# Altium footprint library UBC Formula Electric.PcbLib: 35 footprints (part 2 of 3)
Each footprint in its own frame and in the unit in brackets; x right, y up, seen from the top. Pads: shape width x height; smd on the part's side, far side on the other; paste and mask are expansions set on the pad; w line width, h text height; cw(c..) or ccw(c..) is an arc to the next point about the centre after c.
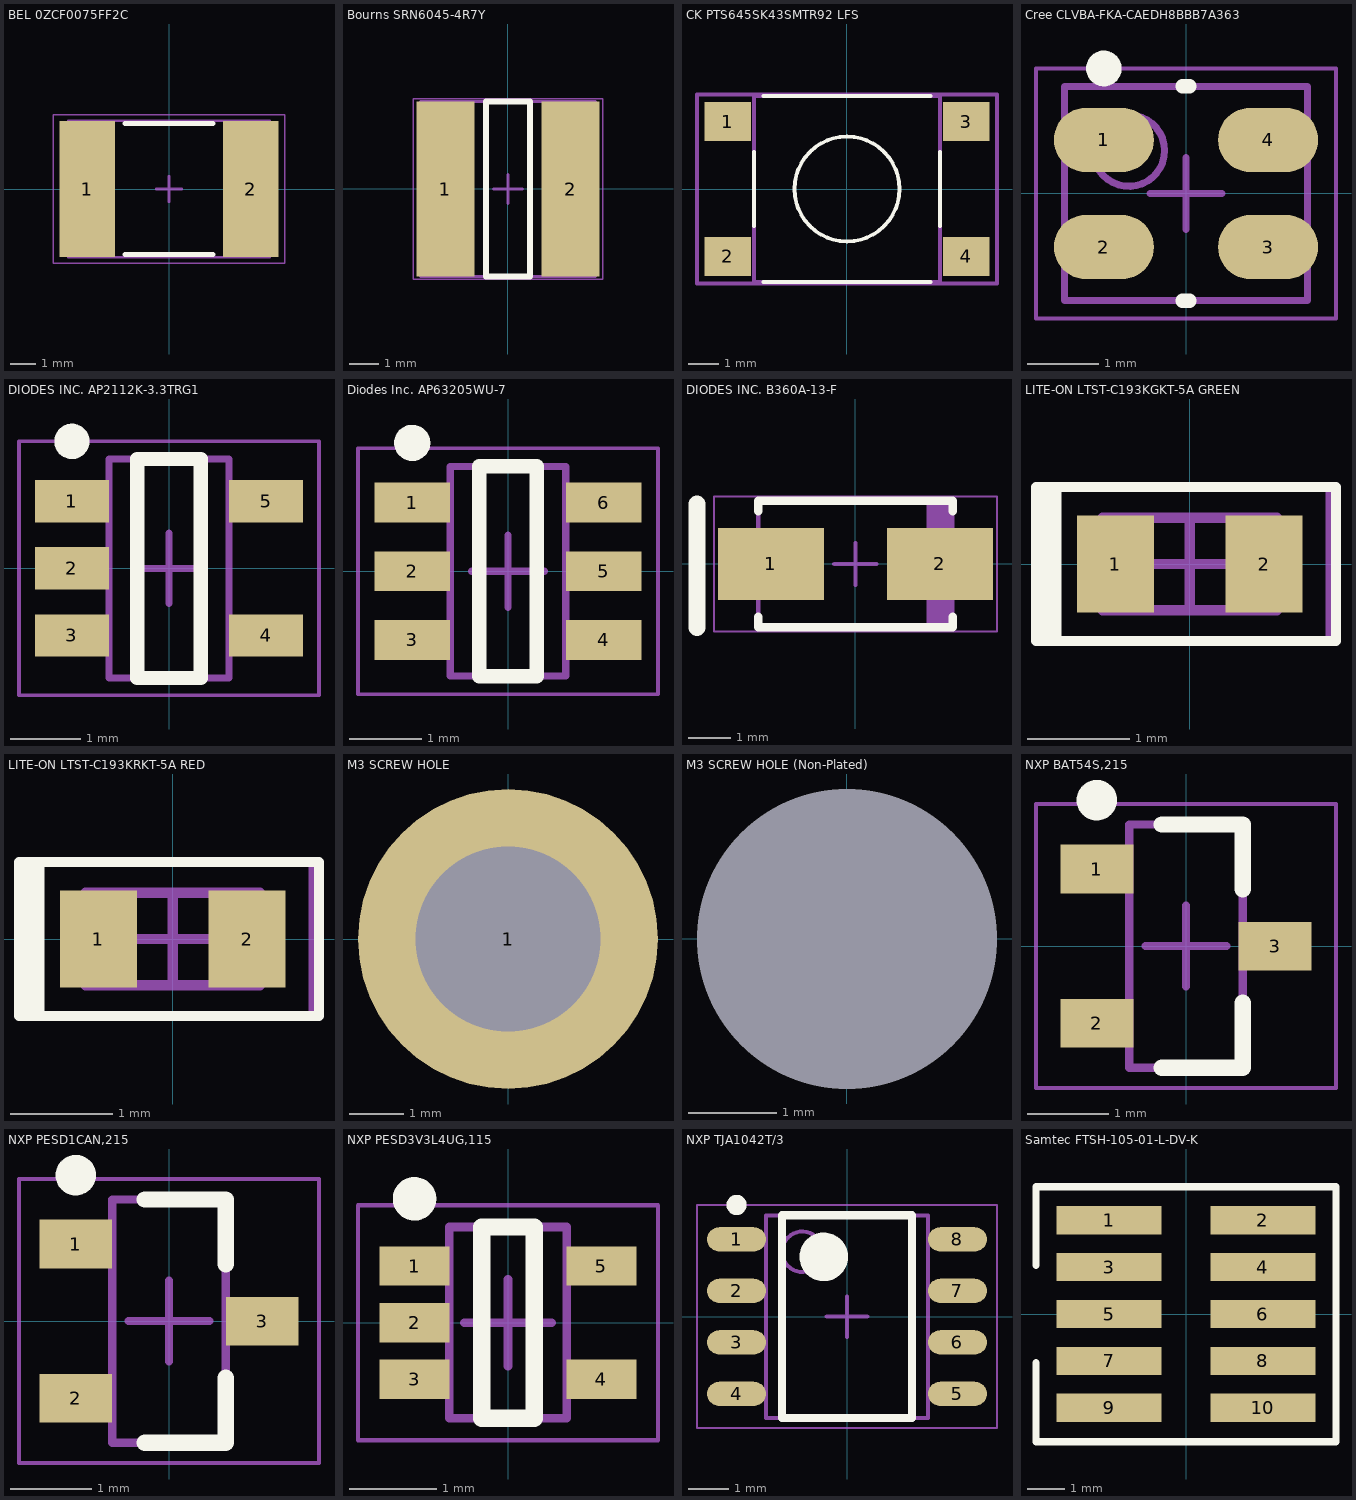
[diagram p1: the footprints below, top view; thin cyan lines are the x and y axes]

## BEL 0ZCF0075FF2C [mm] "Polymeric PTC Resettable Fuse 33V 750mA SMD (2920)"
height 1.15
pads (2):
  rect 2.2x5.4 smd: 1(-3.25,0) 2(3.25,0)
Top Overlay:
  lines w0.2: -1.75,-2.6 1.75,-2.6 ; -1.75,2.6 1.75,2.6
Mechanical 13:
  lines w0.1: -3.99,-2.7 3.99,-2.7 3.99,2.7 -3.99,2.7 -3.99,-2.7
Mechanical 15:
  lines w0.05: -4.6,-2.95 4.6,-2.95 4.6,2.95 -4.6,2.95 -4.6,-2.95
  lines w0.1: -0.5,0 0.5,0 ; 0,-0.5 0,0.5
3D body "User Library-0ZCF0200AF2C.step": height 0.4, standoff -0.4, extent -3.99,-2.745 3.99,2.695

## Bourns SRN6045-4R7Y [mm] "4.7UH SMD Inductor"
pads (2):
  rect 2x6 smd: 1(-2.141,-0.009) 2(2.159,-0.009)
Top Overlay:
  lines w0.2: -0.741,-3.009 0.759,-3.009 0.759,2.991 -0.741,2.991 -0.741,-3.009
Mechanical 13:
  lines w0.1: -2.991,-3.009 3.009,-3.009 3.009,2.991 -2.991,2.991 -2.991,-3.009
Mechanical 15:
  lines w0.05: -3.241,-3.109 -3.241,3.091 3.259,3.091 3.259,-3.109 -3.241,-3.109
  lines w0.1: -0.491,-0.009 0.509,-0.009 ; 0.009,-0.509 0.009,0.491
3D body "User Library-SRN6045 Series.STEP": height 4.5, standoff 0, extent -3.141,-3.009 3.159,2.991

## CK PTS645SK43SMTR92 LFS [mm] "6*6mm vertical type, SMD, height 4.3mm, salmon actuator, 360gf, T&R"
height 4.3
pads (4):
  rect 1.55x1.3 smd: 1(-3.975,2.25) 2(-3.975,-2.25) 3(3.975,2.25) 4(3.975,-2.25)
Top Overlay:
  circle w0.127: c0,0 r1.75
  lines w0.127: -3.1,-1.24 -3.1,1.24 ; -2.79,-3.1 2.79,-3.1 ; -2.79,3.1 2.79,3.1 ; 3.1,-1.24 3.1,1.24
Mechanical 13:
  lines w0.127: -3.1,-3.1 -3.1,3.1 3.1,3.1 3.1,-3.1 -3.1,-3.1
Mechanical 15:
  lines w0.127: -5,-3.15 5,-3.15 5,3.15 -5,3.15 -5,-3.15
3D body "4301x20438x6.stp": height 4.29, standoff -0.01, extent -4.5,-3.1 4.5,3.1

## Cree CLVBA-FKA-CAEDH8BBB7A363 [mm] "RGB LED CLVBA-FKA-Series (4-SOJ)"
height 2.1
pads (4):
  oval 1.4x0.9 smd: 1(-1.15,0.75) 2(-1.15,-0.75) 3(1.15,-0.75) 4(1.15,0.75)
Top Overlay:
  circle w0.25: c-1.15,1.75 r0.125
  lines w0.2: -0.05,-1.5 0.05,-1.5 ; -0.05,1.5 0.05,1.5
Mechanical 13:
  circle w0.1: c-0.8,0.6 r0.5
  lines w0.1: -1.7,-1.5 1.7,-1.5 1.7,1.5 -1.7,1.5 -1.7,-1.5
Mechanical 15:
  lines w0.05: -2.1,-1.75 2.1,-1.75 2.1,1.75 -2.1,1.75 -2.1,-1.75
  lines w0.1: -0.5,0 0.5,0 ; 0,-0.5 0,0.5
3D body "CLVBA-FKA-CAEDH8BBB7A363--3DModel-STEP-56544.STEP": height 2.06, standoff -0.04, extent -1.75,-1.4 1.75,1.4

## DIODES INC. AP2112K-3.3TRG1 [mm] "IC REG LINEAR 3.3V 600MA (SOT-25)"
height 1.4
pads (5):
  rect 1.05x0.6 smd: 1(-1.375,0.95) 2(-1.375,0) 3(-1.375,-0.95) 4(1.375,-0.95) 5(1.375,0.95)
Top Overlay:
  circle w0.25: c-1.375,1.8 r0.125
  lines w0.2: -0.45,-1.55 -0.45,1.55 0.45,1.55 0.45,-1.55 -0.45,-1.55
Mechanical 13:
  lines w0.1: -0.85,-1.55 0.85,-1.55 0.85,1.55 -0.85,1.55 -0.85,-1.55
Mechanical 15:
  lines w0.05: -2.125,-1.8 2.125,-1.8 2.125,1.8 -2.125,1.8 -2.125,-1.8
  lines w0.1: -0.5,0 0.5,0 ; 0,-0.5 0,0.5
3D body "DI AP2112K-3.3TRG1.step": height 1.4, standoff 0, extent -1.5,-1.55 1.5,1.55

## Diodes Inc. AP63205WU-7 [mm] "IC REG BUCK 5V 2A (TSOT26)"
height 1
pads (6):
  rect 1.05x0.55 smd: 1(-1.325,0.95) 2(-1.325,0) 3(-1.325,-0.95) 4(1.325,-0.95) 5(1.325,0) 6(1.325,0.95)
Top Overlay:
  circle w0.25: c-1.325,1.775 r0.125
  lines w0.2: -0.4,-1.45 0.4,-1.45 0.4,1.45 -0.4,1.45 -0.4,-1.45
Mechanical 13:
  lines w0.1: -0.8,-1.45 -0.8,1.45 0.8,1.45 0.8,-1.45 -0.8,-1.45
Mechanical 15:
  lines w0.05: -2.075,-1.7 -2.075,1.7 2.075,1.7 2.075,-1.7 -2.075,-1.7
  lines w0.1: -0.5,0 0.5,0 ; 0,-0.5 0,0.5
3D body "User Library-SOT23-6-2.step": height 1.45, standoff 0, extent -1.4,-1.45 1.4,1.45

## DIODES INC. B360A-13-F [mm] "DIODE SCHOTTKY 60V 3A (SMA)"
pads (2):
  rect 2.5x1.7 smd: 1(-2,0) 2(2,0)
Top Overlay:
  lines w0.2: -2.3,-1.25 -2.3,-1.5 2.3,-1.5 2.3,-1.25 ; -2.3,1.25 -2.3,1.5 2.3,1.5 2.3,1.25
  lines w0.4: -3.75,-1.5 -3.75,1.42
Mechanical 13:
  rectangle: 1.681,-1.46 2.3,1.46
  lines w0.1: -2.3,-1.46 -2.3,1.46 2.3,1.46 2.3,-1.46 -2.3,-1.46
Mechanical 15:
  lines w0.05: -3.35,-1.6 -3.35,1.6 3.35,1.6 3.35,-1.6 -3.35,-1.6
  lines w0.1: -0.5,0 0.5,0 ; 0,-0.5 0,0.5
3D body "DIOM4326X23L.step": height 2.3, standoff 0, extent -2.52,-1.46 2.52,1.46

## LITE-ON LTST-C193KGKT-5A GREEN [mm] "Chip LED Green (1608)"
height 0.35
pads (2):
  rect 0.75x0.95 smd: 1(-0.725,0) 2(0.725,0)
Top Overlay:
  region: -1.25,0.75 -1.475,0.75 -1.475,-0.75 -1.25,-0.75
  lines w0.1: -1.5,-0.75 -1.5,0.75 1.425,0.75 1.425,-0.75 -1.5,-0.75
Mechanical 13:
  lines w0.1: -0.85,-0.45 0.85,-0.45 0.85,0.45 -0.85,0.45 -0.85,-0.45
Mechanical 15:
  lines w0.05: -1.35,-0.75 1.35,-0.75 1.35,0.75 -1.35,0.75 -1.35,-0.75
  lines w0.1: -0.45,0 0.45,0 ; 0,-0.45 0,0.45
3D body: height 0.35, standoff 0, extent -0.275,-0.025 -0.275,-0.025
3D body "User Library-LED_0603_G.STEP": height 0.6, standoff 0, extent -0.8,-0.4 0.8,0.4

## LITE-ON LTST-C193KRKT-5A RED [mm] "Chip LED Red (1608)"
height 0.35
pads (2):
  rect 0.75x0.95 smd: 1(-0.725,0) 2(0.725,0)
Top Overlay:
  region: -1.25,0.75 -1.475,0.75 -1.475,-0.75 -1.25,-0.75
  lines w0.1: -1.5,-0.75 -1.5,0.75 1.425,0.75 1.425,-0.75 -1.5,-0.75
Mechanical 13:
  lines w0.1: -0.85,-0.45 0.85,-0.45 0.85,0.45 -0.85,0.45 -0.85,-0.45
Mechanical 15:
  lines w0.05: -1.35,-0.75 1.35,-0.75 1.35,0.75 -1.35,0.75 -1.35,-0.75
  lines w0.1: -0.45,0 0.45,0 ; 0,-0.45 0,0.45
3D body: height 0.35, standoff 0, extent -0.275,-0.025 -0.275,-0.025
3D body "User Library-LED_0603_R.STEP": height 0.6, standoff 0, extent -0.775,-0.4 0.825,0.4

## M3 SCREW HOLE [mm]
pads (1):
  round 5.5 hole 3.4: 1(0,0)

## M3 SCREW HOLE (Non-Plated) [mm]
pads (1):
  round 0 hole 3.4 unplated: 1(0,0)

## NXP BAT54S,215 [mm] "DIODE ARRAY SCHOTTKY 30V (SOT-23)"
height 1.1
pads (3):
  rect 0.9x0.6 smd: 1(-1.1,0.95) 2(-1.1,-0.95) 3(1.1,0)
Top Overlay:
  circle w0.25: c-1.1,1.8 r0.125
  lines w0.2: -0.3,-1.5 0.7,-1.5 0.7,-0.7 ; -0.3,1.5 0.7,1.5 0.7,0.7
Mechanical 13:
  lines w0.1: -0.7,-1.5 -0.7,1.5 0.7,1.5 0.7,-1.5 -0.7,-1.5
Mechanical 15:
  lines w0.05: -1.85,-1.75 -1.85,1.75 1.85,1.75 1.85,-1.75 -1.85,-1.75
  lines w0.1: -0.5,0 0.5,0 ; 0,-0.5 0,0.5
3D body "NEX BAT54S,215.step": height 1.1, standoff 0, extent -1.3,-1.5 1.3,1.5

## NXP PESD1CAN,215 [mm] "70V Clamp 3A CAN TVS Diode (SOT23)"
height 1.1
pads (3):
  rect 0.9x0.6 smd: 1(-1.15,0.95) 2(-1.15,-0.95) 3(1.15,0)
Top Overlay:
  circle w0.25: c-1.15,1.8 r0.125
  lines w0.2: -0.3,-1.5 0.7,-1.5 0.7,-0.7 ; -0.3,1.5 0.7,1.5 0.7,0.7
Mechanical 2:
  lines w0.1: -0.7,-1.5 -0.7,1.5 0.7,1.5 0.7,-1.5 -0.7,-1.5
Mechanical 4:
  lines w0.05: -1.85,-1.75 -1.85,1.75 1.85,1.75 1.85,-1.75 -1.85,-1.75
  lines w0.1: -0.5,0 0.5,0 ; 0,-0.5 0,0.5
3D body "SOT23127P600-8N.step": height 1.1, standoff 0, extent -1.3,-1.5 1.3,1.5

## NXP PESD3V3L4UG,115 [mm] "TVS DIODE 3.3V 12V 5TSSOP (SOT-353)"
height 1.1
pads (5):
  rect 0.8x0.45 smd: 1(-1.075,0.65) 2(-1.075,0) 3(-1.075,-0.65) 4(1.075,-0.65) 5(1.075,0.65)
Top Overlay:
  circle w0.25: c-1.075,1.425 r0.125
  lines w0.2: -0.3,-1.1 -0.3,1.1 0.3,1.1 0.3,-1.1 -0.3,-1.1
Mechanical 13:
  lines w0.1: -0.675,-1.1 0.675,-1.1 0.675,1.1 -0.675,1.1 -0.675,-1.1
Mechanical 15:
  lines w0.05: -1.725,-1.35 1.725,-1.35 1.725,1.35 -1.725,1.35 -1.725,-1.35
  lines w0.1: -0.5,0 0.5,0 ; 0,-0.5 0,0.5
3D body "NEX PESD3V3L4UG,115.step": height 1.1, standoff 0, extent -1.15,-1.1 1.15,1.1

## NXP TJA1042T/3 [mm] "High-Speed CAN Transceiver (8-SOIC)"
height 1.75
pads (8):
  oval 1.45x0.6 smd: 1(-2.725,1.905) 2(-2.725,0.635) 3(-2.725,-0.635) 4(-2.725,-1.905) 5(2.725,-1.905) 6(2.725,-0.635) 7(2.725,0.635) 8(2.725,1.905)
Top Overlay:
  circle w0.6: c-0.575,1.475 r0.3
  circle w0.25: c-2.725,2.755 r0.125
  lines w0.2: -1.6,-2.5 1.6,-2.5 1.6,2.5 -1.6,2.5 -1.6,-2.5
Mechanical 13:
  circle w0.1: c-1.1,1.6 r0.5
  lines w0.1: -2,-2.5 2,-2.5 2,2.5 -2,2.5 -2,-2.5
Mechanical 15:
  lines w0.05: -3.7,-2.75 3.7,-2.75 3.7,2.75 -3.7,2.75 -3.7,-2.75
  lines w0.1: -0.5,0 0.5,0 ; 0,-0.5 0,0.5
3D body "SO-8.stp": height 1.76, standoff 0, extent -3.099,-2.502 3.099,2.502

## Samtec FTSH-105-01-L-DV-K [mm] "10-Pin 1.27mm Shrouded Header DAP debug header"
pads (10):
  rect 2.8x0.75 smd: 1(-2.05,2.5) 2(2.05,2.5) 3(-2.05,1.25) 4(2.05,1.25) 5(-2.05,0) 6(2.05,0) 7(-2.05,-1.25) 8(2.05,-1.25) 9(-2.05,-2.5) 10(2.05,-2.5)
Top Overlay:
  lines w0.2: -4,-1.3 -4,-3.4 4,-3.4 4,3.4 -4,3.4 -4,1.3
3D body "FTSH-105-01-X-DV-K.step": height 6.11, standoff -0.01, extent -2.921,-3.137 2.921,3.137